# EAGLE library part ATTINY45*-? (library SteMarie)
Atmel ATTiny45 NOTE: Combine with ATTiny*5?
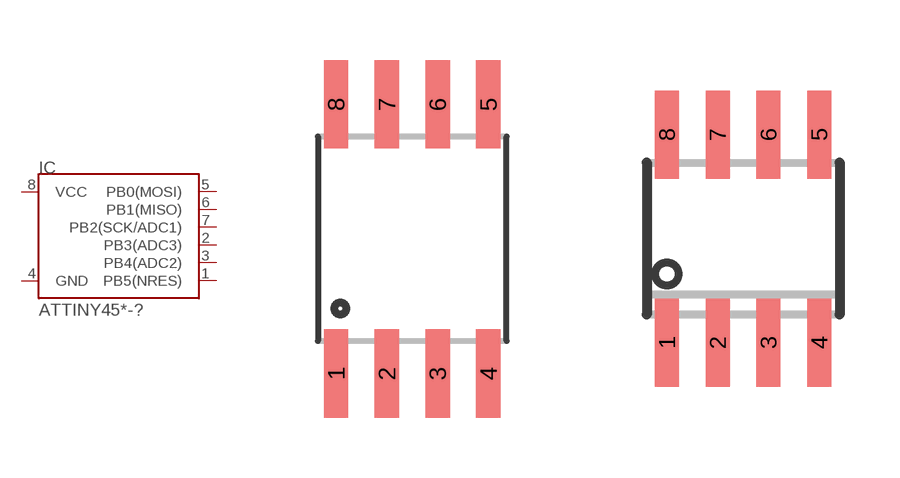
[diagram p11: symbol with the pads of SO08-EIAJ; footprints SO08-EIAJ, SO08]

Designator prefix IC

## ATTINY45-10-8S2, ATTINY45-20-8S2, ATTINY45V-10-8S2, ATTINY45V-20-8S2  [SO08-EIAJ]
1  PB5(NRES)
2  PB3(ADC3)
3  PB4(ADC2)
4  GND  pwr
5  PB0(MOSI)
6  PB1(MISO)
7  PB2(SCK/ADC1)
8  VCC  pwr

## ATTINY45-S8S1  [SO08]
Pads as for SO08-EIAJ

## ATTINY45-10-8P3, ATTINY45-20-8P3, ATTINY45V-10-8P3, ATTINY45V-20-8P3  [DIL08]
Pads as for SO08-EIAJ

## Footprint SO08-EIAJ (pad centres in mm)
Fits EIAJ packages (wide version of the SOIC-8).
smd 0.61 x 2.21: 1 -1.905,-3.378; 2 -0.635,-3.378; 3 0.635,-3.378; 4 1.905,-3.378; 5 1.905,3.353; 6 0.635,3.353; 7 -0.635,3.353; 8 -1.905,3.353

## Footprint SO08 (pad centres in mm)
Small Outline Package 8 NS Package M08A
smd 0.6 x 2.2: 1 -1.905,-2.6; 2 -0.635,-2.6; 3 0.635,-2.6; 4 1.905,-2.6; 5 1.905,2.6; 6 0.635,2.6; 7 -0.635,2.6; 8 -1.905,2.6

## Footprint DIL08 (pad centres in mm)
Dual In Line
drill 0.813 long: 1 -3.81,-3.81; 2 -1.27,-3.81; 3 1.27,-3.81; 4 3.81,-3.81; 5 3.81,3.81; 6 1.27,3.81; 7 -1.27,3.81; 8 -3.81,3.81